# EAGLE library part V3S (library Allwinner V3s)
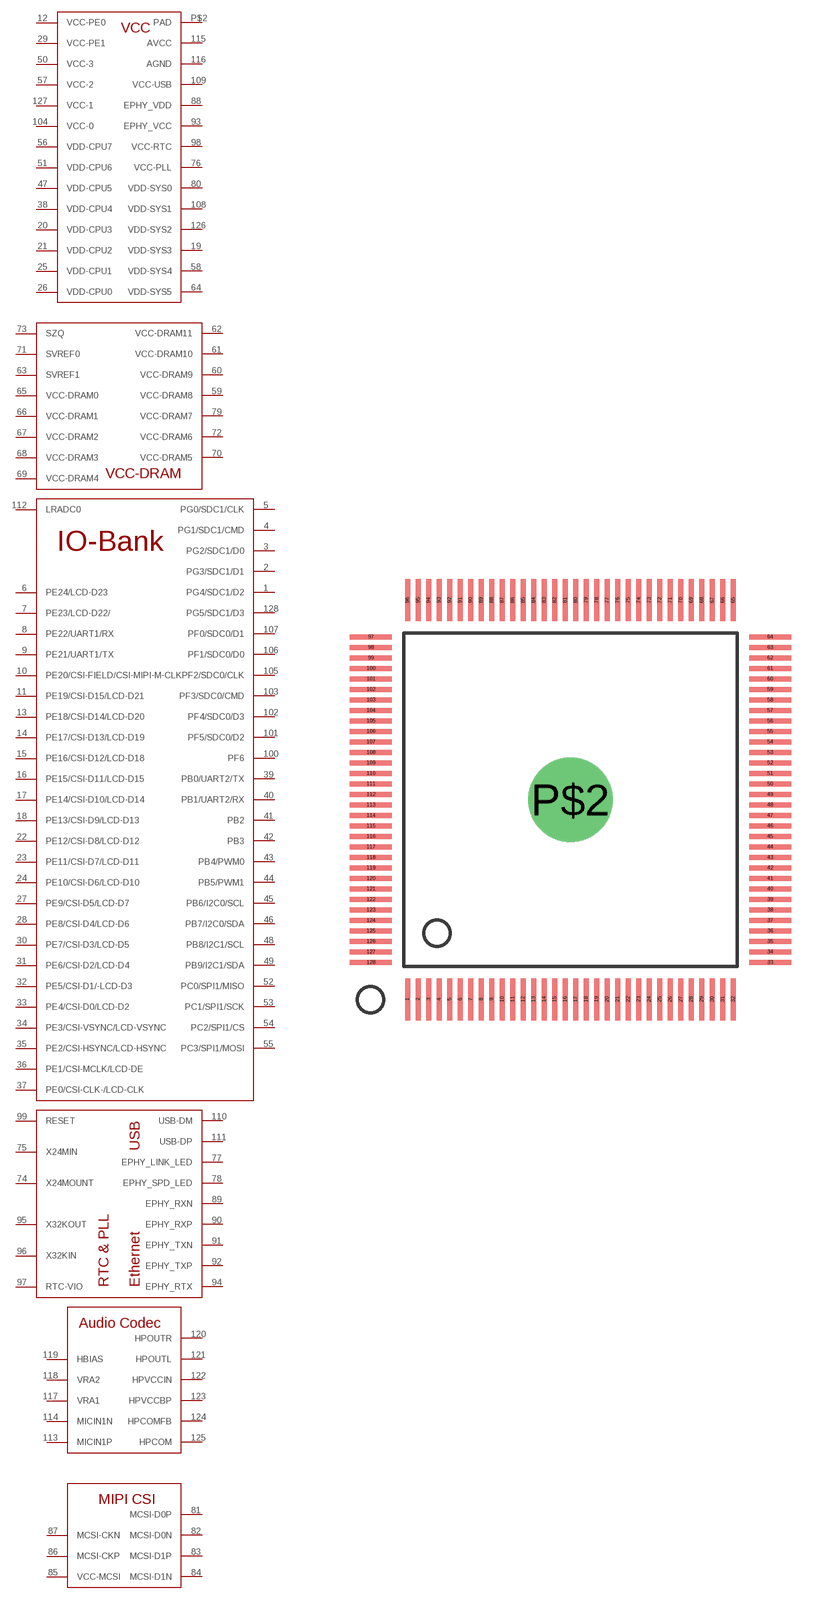
[diagram p0: symbol with the pads of QFP-128; footprint QFP-128]

Designator prefix -

## V3S  [QFP-128]
1  PG4/SDC1/D2
2  PG3/SDC1/D1
3  PG2/SDC1/D0
4  PG1/SDC1/CMD
5  PG0/SDC1/CLK
6  PE24/LCD-D23
7  PE23/LCD-D22/
8  PE22/UART1/RX
9  PE21/UART1/TX
10  PE20/CSI-FIELD/CSI-MIPI-M-CLK
11  PE19/CSI-D15/LCD-D21
12  VCC-PE0
13  PE18/CSI-D14/LCD-D20
14  PE17/CSI-D13/LCD-D19
15  PE16/CSI-D12/LCD-D18
16  PE15/CSI-D11/LCD-D15
17  PE14/CSI-D10/LCD-D14
18  PE13/CSI-D9/LCD-D13
19  VDD-SYS3
20  VDD-CPU3
21  VDD-CPU2
22  PE12/CSI-D8/LCD-D12
23  PE11/CSI-D7/LCD-D11
24  PE10/CSI-D6/LCD-D10
25  VDD-CPU1
26  VDD-CPU0
27  PE9/CSI-D5/LCD-D7
28  PE8/CSI-D4/LCD-D6
29  VCC-PE1
30  PE7/CSI-D3/LCD-D5
31  PE6/CSI-D2/LCD-D4
32  PE5/CSI-D1/-LCD-D3
33  PE4/CSI-D0/LCD-D2
34  PE3/CSI-VSYNC/LCD-VSYNC
35  PE2/CSI-HSYNC/LCD-HSYNC
36  PE1/CSI-MCLK/LCD-DE
37  PE0/CSI-CLK-/LCD-CLK
38  VDD-CPU4
39  PB0/UART2/TX
40  PB1/UART2/RX
41  PB2
42  PB3
43  PB4/PWM0
44  PB5/PWM1
45  PB6/I2C0/SCL
46  PB7/I2C0/SDA
47  VDD-CPU5
48  PB8/I2C1/SCL
49  PB9/I2C1/SDA
50  VCC-3
51  VDD-CPU6
52  PC0/SPI1/MISO
53  PC1/SPI1/SCK
54  PC2/SPI1/CS
55  PC3/SPI1/MOSI
56  VDD-CPU7
57  VCC-2
58  VDD-SYS4
59  VCC-DRAM8
60  VCC-DRAM9
61  VCC-DRAM10
62  VCC-DRAM11
63  SVREF1
64  VDD-SYS5
65  VCC-DRAM0
66  VCC-DRAM1
67  VCC-DRAM2
68  VCC-DRAM3
69  VCC-DRAM4
70  VCC-DRAM5
71  SVREF0
72  VCC-DRAM6
73  SZQ
74  X24MOUNT
75  X24MIN
76  VCC-PLL
77  EPHY_LINK_LED
78  EPHY_SPD_LED
79  VCC-DRAM7
80  VDD-SYS0
81  MCSI-D0P
82  MCSI-D0N
83  MCSI-D1P
84  MCSI-D1N
85  VCC-MCSI
86  MCSI-CKP
87  MCSI-CKN
88  EPHY_VDD
89  EPHY_RXN
90  EPHY_RXP
91  EPHY_TXN
92  EPHY_TXP
93  EPHY_VCC
94  EPHY_RTX
95  X32KOUT
96  X32KIN
97  RTC-VIO
98  VCC-RTC
99  RESET
100  PF6
101  PF5/SDC0/D2
102  PF4/SDC0/D3
103  PF3/SDC0/CMD
104  VCC-0
105  PF2/SDC0/CLK
106  PF1/SDC0/D0
107  PF0/SDC0/D1
108  VDD-SYS1
109  VCC-USB
110  USB-DM
111  USB-DP
112  LRADC0
113  MICIN1P
114  MICIN1N
115  AVCC
116  AGND
117  VRA1
118  VRA2
119  HBIAS
120  HPOUTR
121  HPOUTL
122  HPVCCIN
123  HPVCCBP
124  HPCOMFB
125  HPCOM
126  VDD-SYS2
127  VCC-1
128  PG5/SDC1/D3
P$2  PAD

## Footprint QFP-128 (pad centres in mm)
smd 0.2 x 1.6: 1 -6.2,-7.6; 2 -5.8,-7.6; 3 -5.4,-7.6; 4 -5,-7.6; 5 -4.6,-7.6; 6 -4.2,-7.6; 7 -3.8,-7.6; 8 -3.4,-7.6; 9 -3,-7.6; 10 -2.6,-7.6; 11 -2.2,-7.6; 12 -1.8,-7.6; 13 -1.4,-7.6; 14 -1,-7.6; 15 -0.6,-7.6; 16 -0.2,-7.6; 17 0.2,-7.6; 18 0.6,-7.6; 19 1,-7.6; 20 1.4,-7.6; 21 1.8,-7.6; 22 2.2,-7.6; 23 2.6,-7.6; 24 3,-7.6; 25 3.4,-7.6; 26 3.8,-7.6; 27 4.2,-7.6; 28 4.6,-7.6; 29 5,-7.6; 30 5.4,-7.6; 31 5.8,-7.6; 32 6.2,-7.6; 65 6.2,7.6; 66 5.8,7.6; 67 5.4,7.6; 68 5,7.6; 69 4.6,7.6; 70 4.2,7.6; 71 3.8,7.6; 72 3.4,7.6; 73 3,7.6; 74 2.6,7.6; 75 2.2,7.6; 76 1.8,7.6; 77 1.4,7.6; 78 1,7.6; 79 0.6,7.6; 80 0.2,7.6; 81 -0.2,7.6; 82 -0.6,7.6; 83 -1,7.6; 84 -1.4,7.6; 85 -1.8,7.6; 86 -2.2,7.6; 87 -2.6,7.6; 88 -3,7.6; 89 -3.4,7.6; 90 -3.8,7.6; 91 -4.2,7.6; 92 -4.6,7.6; 93 -5,7.6; 94 -5.4,7.6; 95 -5.8,7.6; 96 -6.2,7.6
smd 1.6 x 0.2: 33 7.6,-6.2; 34 7.6,-5.8; 35 7.6,-5.4; 36 7.6,-5; 37 7.6,-4.6; 38 7.6,-4.2; 39 7.6,-3.8; 40 7.6,-3.4; 41 7.6,-3; 42 7.6,-2.6; 43 7.6,-2.2; 44 7.6,-1.8; 45 7.6,-1.4; 46 7.6,-1; 47 7.6,-0.6; 48 7.6,-0.2; 49 7.6,0.2; 50 7.6,0.6; 51 7.6,1; 52 7.6,1.4; 53 7.6,1.8; 54 7.6,2.2; 55 7.6,2.6; 56 7.6,3; 57 7.6,3.4; 58 7.6,3.8; 59 7.6,4.2; 60 7.6,4.6; 61 7.6,5; 62 7.6,5.4; 63 7.6,5.8; 64 7.6,6.2; 97 -7.6,6.2; 98 -7.6,5.8; 99 -7.6,5.4; 100 -7.6,5; 101 -7.6,4.6; 102 -7.6,4.2; 103 -7.6,3.8; 104 -7.6,3.4; 105 -7.6,3; 106 -7.6,2.6; 107 -7.6,2.2; 108 -7.6,1.8; 109 -7.6,1.4; 110 -7.6,1; 111 -7.6,0.6; 112 -7.6,0.2; 113 -7.6,-0.2; 114 -7.6,-0.6; 115 -7.6,-1; 116 -7.6,-1.4; 117 -7.6,-1.8; 118 -7.6,-2.2; 119 -7.6,-2.6; 120 -7.6,-3; 121 -7.6,-3.4; 122 -7.6,-3.8; 123 -7.6,-4.2; 124 -7.6,-4.6; 125 -7.6,-5; 126 -7.6,-5.4; 127 -7.6,-5.8; 128 -7.6,-6.2
drill 2.2: P$2 0,0